# EAGLE library part AD5330 (library SparkFun)
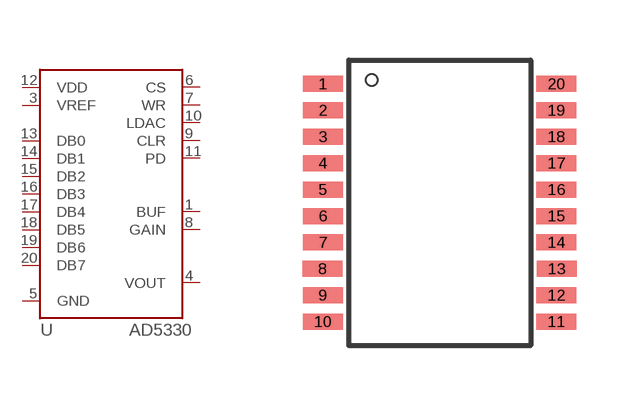
[diagram p293: symbol with the pads of TSSOP20; footprint TSSOP20]

Designator prefix U

## AD5330  [TSSOP20]
1  BUF
3  VREF
4  VOUT
5  GND
6  CS
7  WR
8  GAIN
9  CLR
10  LDAC
11  PD
12  VDD
13  DB0
14  DB1
15  DB2
16  DB3
17  DB4
18  DB5
19  DB6
20  DB7

## Footprint TSSOP20 (pad centres in mm)
smd 1 x 0.4: 1 -2.937,2.693; 2 -2.937,2.032; 3 -2.937,1.372; 4 -2.937,0.712; 5 -2.937,0.051; 6 -2.937,-0.609; 7 -2.937,-1.27; 8 -2.943,-1.93; 9 -2.937,-2.59; 10 -2.937,-3.251; 11 2.905,-3.251; 12 2.905,-2.59; 13 2.911,-1.93; 14 2.905,-1.27; 15 2.905,-0.609; 16 2.905,0.051; 17 2.905,0.712; 18 2.905,1.372; 19 2.905,2.032; 20 2.905,2.693